# Altium footprint library 心率血氧1.PcbLib: 18 footprints (part 1 of 2)
Each footprint in its own frame and in the unit in brackets; x right, y up, seen from the top. Pads: shape width x height; smd on the part's side, far side on the other; paste and mask are expansions set on the pad; w line width, h text height; cw(c..) or ccw(c..) is an arc to the next point about the centre after c.
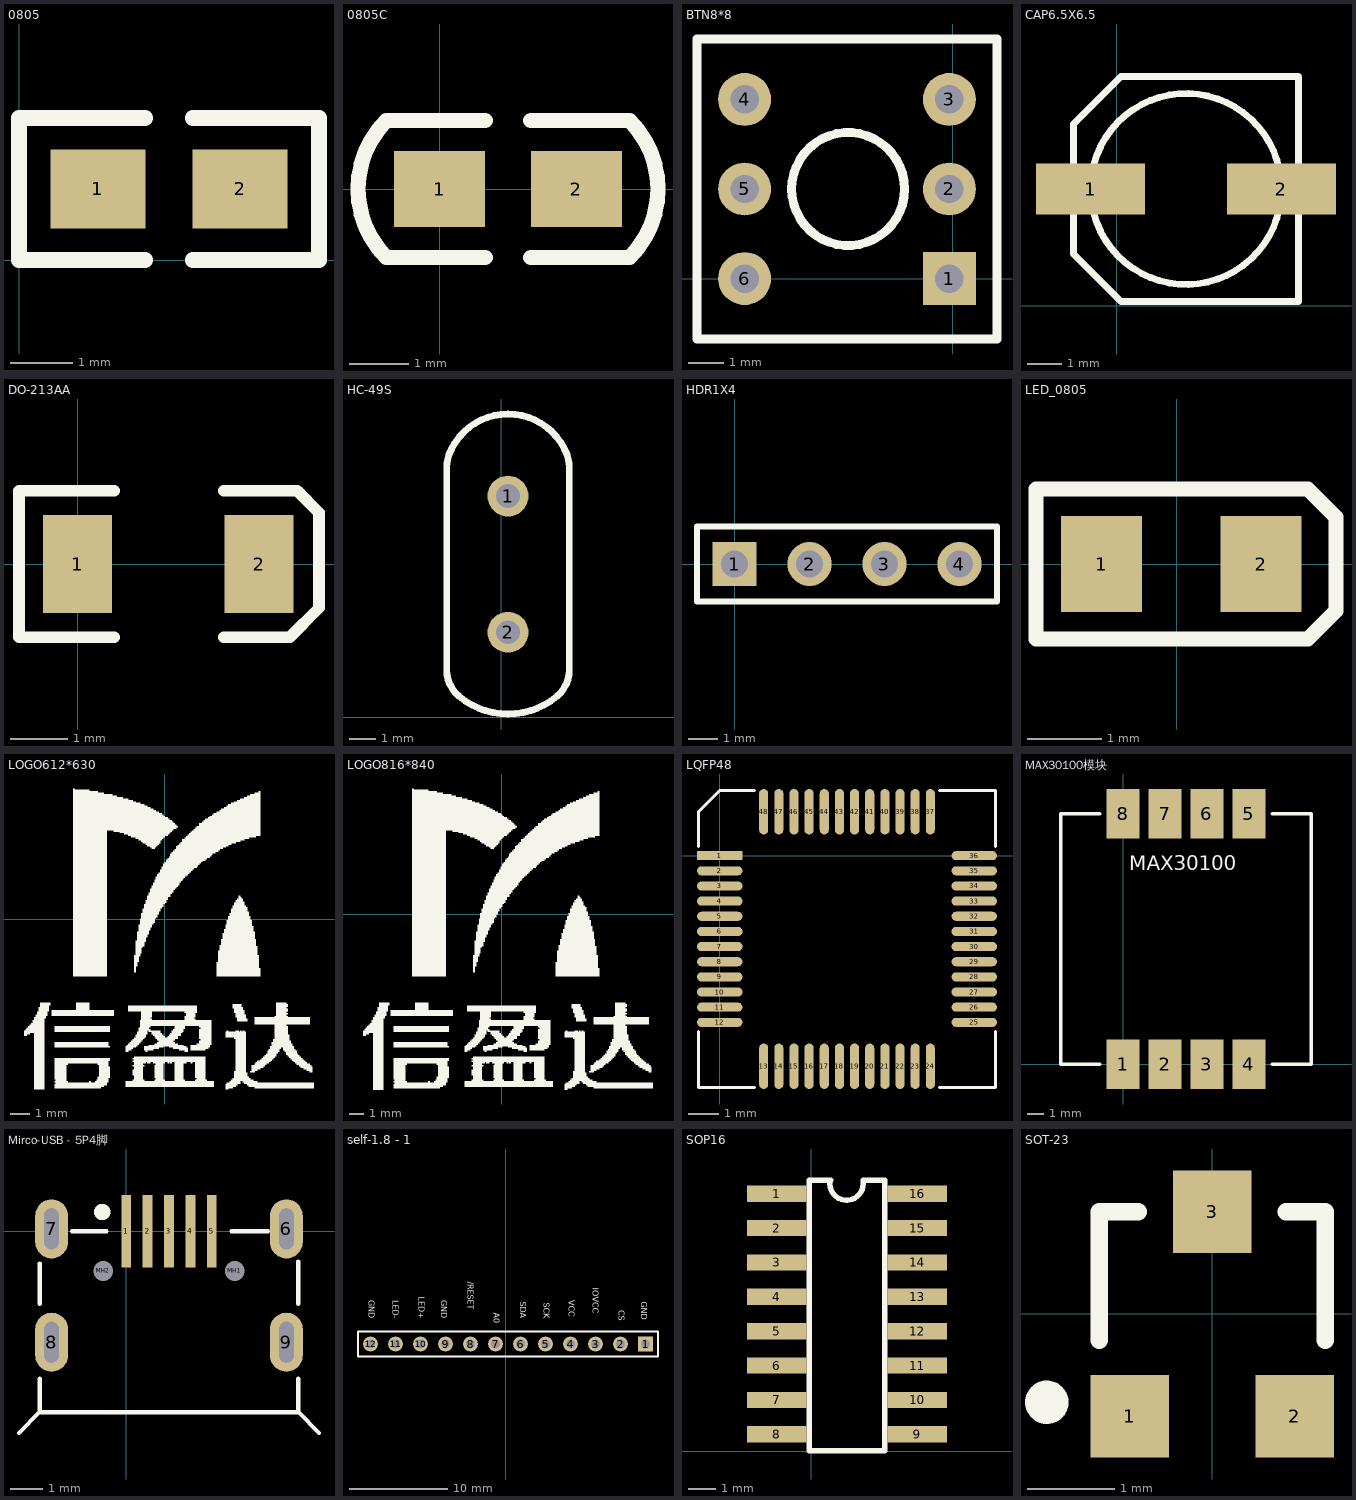
[diagram p0: the footprints below, top view; thin cyan lines are the x and y axes]

## 0805 [mil]
height 1968.5
pads (2):
  rect 60x50 smd: 1(50,45) 2(140,45)
Top Overlay:
  lines w10: 80,0 0,0 0,90 80,90 ; 110,0 190,0 190,90 110,90

## 0805C [mil]
height 1968.5
pads (2):
  rect 60x50 smd: 1(0,0) 2(90,0)
Top Overlay:
  lines w10: 30,-45 -35,-45 cw(c10,0) -35,45 30,45 ; 60,-45 125,-45 ccw(c80,0) 125,45 60,45

## BTN8*8 [mm]
height 50
pads (6):
  rect 1.5x1.5 hole 0.8: 1(-0.1,0)
  round 1.5 hole 0.8: 2(-0.1,2.54) 3(-0.1,5.08) 4(-5.9,5.08) 5(-5.9,2.54) 6(-5.9,0)
Top Overlay:
  circle w0.254: c-2.967,2.54 r1.6
  lines w0.254: -7.25,-1.71 -7.25,6.79 1.25,6.79 1.25,-1.71 -7.25,-1.71

## CAP6.5X6.5 [mm]
height 50
pads (2):
  rect 3.2x1.5 smd: 1(-0.768,3.429) 2(4.832,3.429)
Top Overlay:
  circle w0.2: c2.032,3.429 r2.8
  lines w0.2: -1.27,1.524 -1.27,5.334 0.127,6.731 5.334,6.731 5.334,0.127 0.127,0.127 -1.27,1.524

## DO-213AA [mm]
pads (2):
  rect 1.2x1.7 smd: 1(0,0) 2(3.15,0)
Top Overlay:
  lines w0.2: 0.635,-1.27 -1.016,-1.27 -1.016,1.27 0.635,1.27 ; 2.54,-1.27 3.683,-1.27 4.191,-0.762 4.191,0.888 3.813,1.27 2.54,1.27
Mechanical 1:
  lines w0.1: 3.556,-0.2 3.556,0.2

## HC-49S [mil]
height 1968.5
pads (2):
  round 60 hole 35: 1(10,325) 2(10,125)
Top Overlay:
  lines w10: -76.87,385.16 cw(c10,352.86) 96.81,385.32 ; -76.86,385.18 ccw(c-30,367.75) -80,367.75 -80,69.49 ccw(c-30,69.49) -62.01,31.07 ccw(c10,117.47) 81.99,31.06 ccw(c50,69.49) 100,69.49 100,367.75 ccw(c50,367.75) 96.86,385.18

## HDR1X4 [mm] "Connector; Header; 4 Position"
height 50
pads (4):
  rect 1.5x1.5 hole 0.9: 1(0,0)
  round 1.5 hole 0.9: 2(2.54,0) 3(5.08,0) 4(7.62,0)
Top Overlay:
  lines w0.2: -1.27,-1.27 8.89,-1.27 8.89,1.27 -1.27,1.27 -1.27,-1.27

## LED_0805 [mm] "贴片二极管"
height 1.1
pads (2):
  rect 1.1x1.3 smd: 1(-1.016,0) 2(1.143,0)
Top Overlay:
  lines w0.2: 1.524,-1.016 1.778,-1.016 2.159,-0.635 2.159,0.635 1.778,1.016 1.651,1.016 -1.778,1.016 -1.905,1.016 -1.905,-1.016 1.397,-1.016 1.651,-1.016

## LOGO612*630 [mm]
height 50
Top Overlay:
  drawing of 710 lines, arcs and shapes, not listed

## LOGO816*840 [mm]
height 50
Top Overlay:
  drawing of 710 lines, arcs and shapes, not listed

## LQFP48 [mm]
height 50
pads (48):
  rect 1.5x0.3 smd: 1(0,0)
  oval 1.5x0.3 smd: 2(0,-0.5) 3(0,-1) 4(0,-1.5) 5(0,-2) 6(0,-2.5) 7(0,-3) 8(0,-3.5) 9(0,-4) 10(0,-4.5) 11(0,-5) 12(0,-5.5) 25(8.4,-5.5) 26(8.4,-5) 27(8.4,-4.5) 28(8.4,-4) 29(8.4,-3.5) 30(8.4,-3) 31(8.4,-2.5) 32(8.4,-2) 33(8.4,-1.5) 34(8.4,-1) 35(8.4,-0.5) 36(8.4,0)
  oval 0.3x1.5 smd: 13(1.45,-6.95) 14(1.95,-6.95) 15(2.45,-6.95) 16(2.95,-6.95) 17(3.45,-6.95) 18(3.95,-6.95) 19(4.45,-6.95) 20(4.95,-6.95) 21(5.45,-6.95) 22(5.95,-6.95) 23(6.45,-6.95) 24(6.95,-6.95) 37(6.95,1.45) 38(6.45,1.45) 39(5.95,1.45) 40(5.45,1.45) 41(4.95,1.45) 42(4.45,1.45) 43(3.95,1.45) 44(3.45,1.45) 45(2.95,1.45) 46(2.45,1.45) 47(1.95,1.45) 48(1.45,1.45)
Top Overlay:
  lines w0.1: -0.7,-5.8 -0.7,-7.65 1.15,-7.65 ; -0.7,0.3 -0.7,1.45 0,2.15 1.15,2.15 ; 7.25,-7.65 9.1,-7.65 9.1,-5.8 ; 7.25,2.15 9.1,2.15 9.1,0.3

## MAX30100模块 [mm]
pads (8):
  rect 2x3 smd: 1(0,0) 2(2.54,0) 3(5.08,0) 4(7.62,0) 5(7.62,15.164) 6(5.08,15.164) 7(2.54,15.164) 8(0,15.164)
Top Overlay:
  lines w0.203: -1.397,0 -3.772,0 -3.772,15.164 -1.397,15.164 ; 9.017,0 11.392,0 11.392,15.164 9.017,15.164
  text "MAX30100" at 0.381,11.43 h1.52

## Mirco-USB - 5P4脚 [mm] "Mirco-USB - 5P4脚，带固定柱"
height 50
pads (11):
  rect 0.3x2.2 smd: 1(0,0) 2(0.65,0) 3(1.3,0) 4(1.95,0) 5(2.6,0)
  oval 1x1.8 hole 0.45 slot 1.25 at 90 deg: 6(4.875,0.072) 7(-2.275,0.072) 8(-2.275,-3.378) 9(4.875,-3.378)
  round 0.457 hole 0.6 unplated: MH1(3.3,-1.208) MH2(-0.7,-1.208)
Top Overlay:
  circle w0.25: c-0.732,0.586 r0.125
  lines w0.127: -3.267,-6.138 -2.637,-5.508 -2.637,-4.492 ; -2.637,-2.206 -2.637,-0.986 ; -2.6,-5.508 5.2,-5.508 ; -1.651,0 -0.605,0 ; 3.205,0 4.318,0 ; 5.237,-4.492 5.237,-5.508 5.867,-6.138 ; 5.237,-2.206 5.237,-0.919

## self-1.8 - 1 [mm]
height 50
pads (12):
  rect 1.5x1.5 hole 0.9: 1(14.224,-21.844)
  round 1.5 hole 0.9: 2(11.684,-21.844) 3(9.144,-21.844) 4(6.604,-21.844) 5(4.064,-21.844) 6(1.524,-21.844) 7(-1.016,-21.844) 8(-3.556,-21.844) 9(-6.096,-21.844) 10(-8.636,-21.844) 11(-11.176,-21.844) 12(-13.716,-21.844)
Top Overlay:
  lines w0.2: -14.986,-23.114 13.589,-23.114 15.494,-23.114 15.494,-20.574 -14.986,-20.574 -14.986,-23.114
  text "GND" at 13.589,-17.526 h1.02
  text "GND" at -6.731,-17.399 h1.02
  text "LED+" at -9.017,-17.018 h1.02
  text "SCK" at 3.683,-17.653 h1.02
  text "SDA" at 1.27,-17.526 h1.02
  text "IOVCC" at 8.636,-16.129 h1.02
  text "VCC" at 6.223,-17.399 h1.02
  text "/RESET" at -4.064,-15.494 h1.02
  text "LED-" at -11.684,-17.399 h1.02
  text "CS" at 11.303,-18.415 h1.02
  text "A0" at -1.397,-18.669 h1.02
  text "GND" at -14.097,-17.399 h1.02

## SOP16 [mm]
height 50
pads (16):
  rect 2.2x0.6 smd: 1(-1.27,9.525) 2(-1.27,8.255) 3(-1.27,6.985) 4(-1.27,5.715) 5(-1.27,4.445) 6(-1.27,3.175) 7(-1.27,1.905) 8(-1.27,0.635) 9(3.93,0.635) 10(3.93,1.905) 11(3.93,3.175) 12(3.93,4.445) 13(3.93,5.715) 14(3.93,6.985) 15(3.93,8.255) 16(3.93,9.525)
Top Overlay:
  lines w0.2: 0.704,9.989 ccw(c1.314,9.902) 1.924,9.99 ; 0.73,10.025 -0.07,10.025 -0.07,0.025 2.73,0.025 2.73,10.025 1.93,10.025

## SOT-23 [mm]
height 1.1
pads (3):
  rect 0.9x0.95 smd: 1(-0.95,-1.175) 2(0.95,-1.175) 3(0,1.175)
Top Overlay:
  circle w0.25: c-1.903,-1.016 r0.125
  lines w0.2: -1.3,-0.3 -1.3,1.175 -0.85,1.175 ; 0.85,1.175 1.3,1.175 1.3,-0.3